# Altium footprint library PcbLib1.PcbLib: 58 footprints (part 3 of 4)
Each footprint in its own frame and in the unit in brackets; x right, y up, seen from the top. Pads: shape width x height; smd on the part's side, far side on the other; paste and mask are expansions set on the pad; w line width, h text height; cw(c..) or ccw(c..) is an arc to the next point about the centre after c.
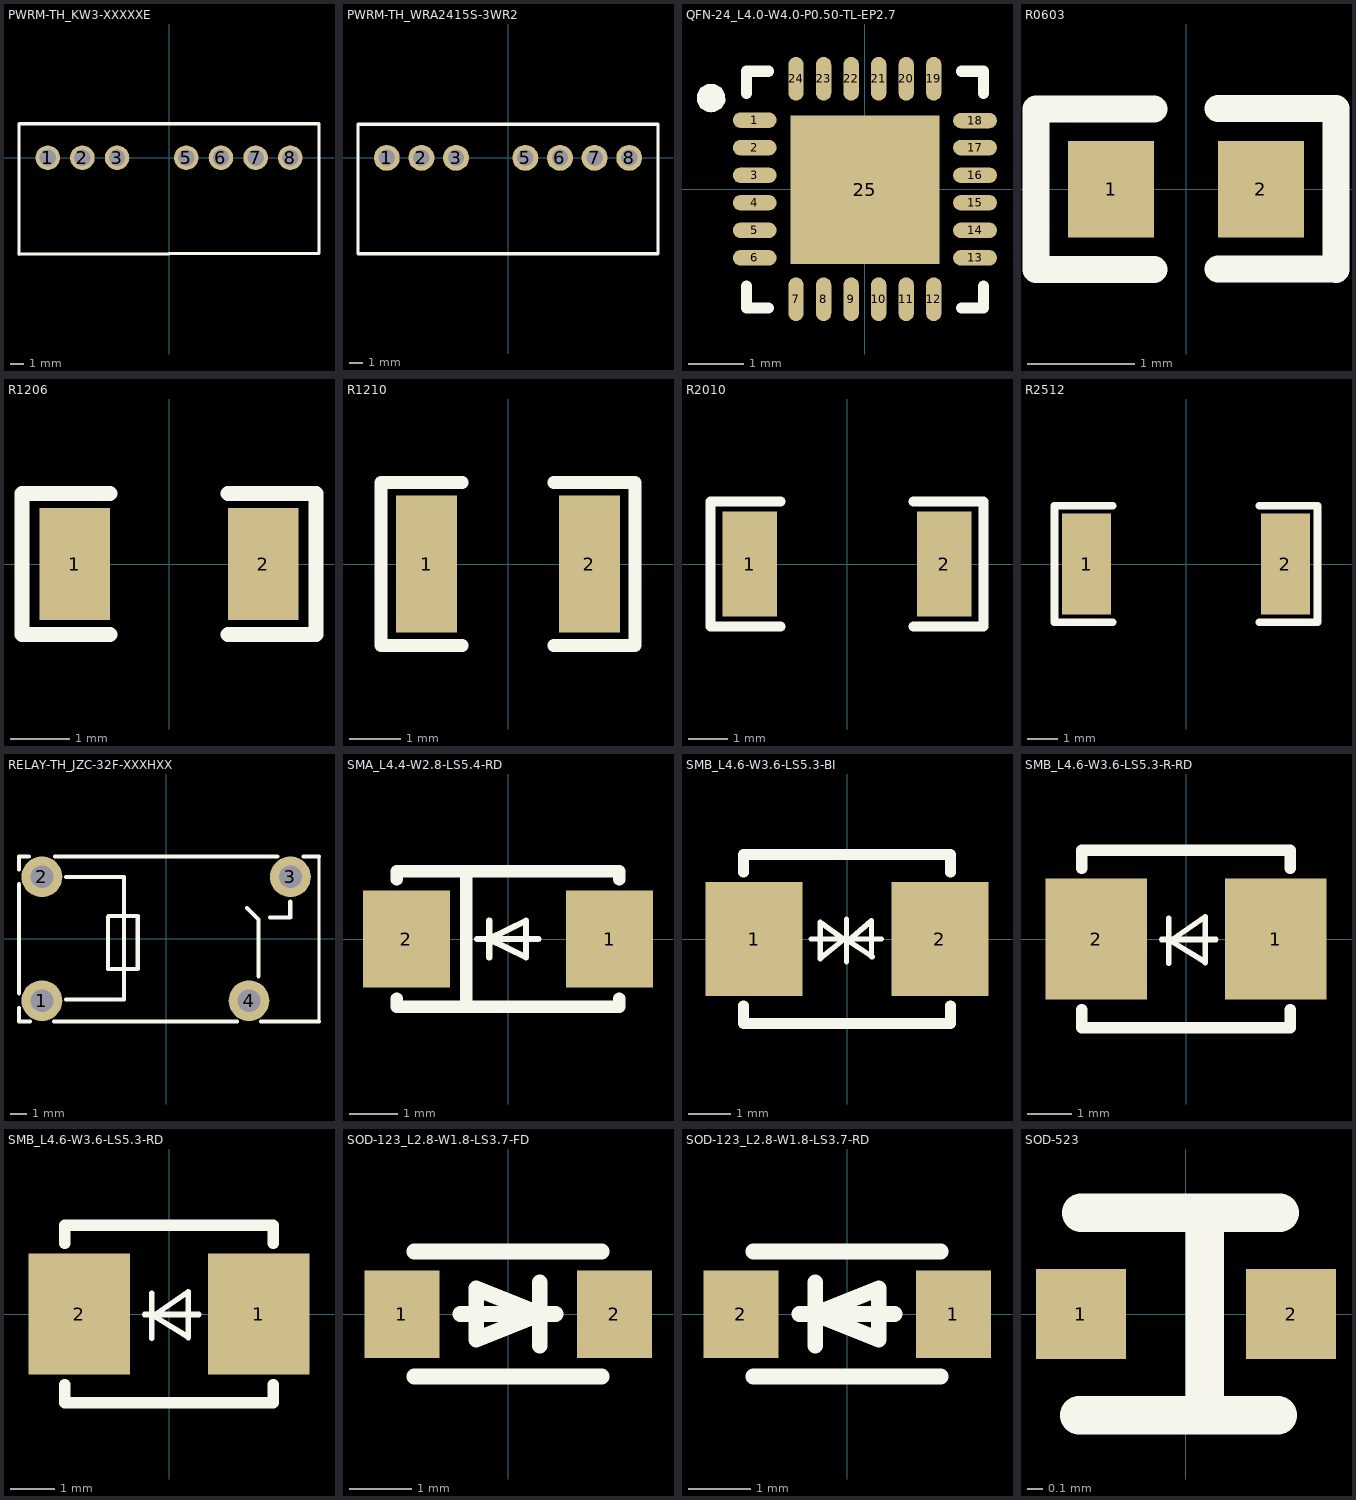
[diagram p2: the footprints below, top view; thin cyan lines are the x and y axes]

## PWRM-TH_KW3-XXXXXE [mm]
pads (7):
  round 1.8 hole 1.2: 1(-8.89,0) 2(-6.35,0) 3(-3.81,0) 5(1.27,0) 6(3.81,0) 7(6.35,0) 8(8.89,0)
Top Overlay:
  lines w0.254: -11,-7.1 11,-7 11,2.5 -11,2.5 -11,-7

## PWRM-TH_WRA2415S-3WR2 [mm]
pads (7):
  round 1.9 hole 1.2: 1(-8.89,0) 2(-6.35,0) 3(-3.81,0) 5(1.27,0) 6(3.81,0) 7(6.35,0) 8(8.89,0)
Top Overlay:
  lines w0.254: -11,-7.036 11,-7.036 11,2.464 -11,2.464 -11,-7.036

## QFN-24_L4.0-W4.0-P0.50-TL-EP2.7 [mm]
pads (25):
  oval 0.796x0.28 smd: 1(-2,1.25) 2(-2,0.75) 3(-2,0.25) 4(-2,-0.25) 5(-2,-0.75) 6(-2,-1.25) 13(2,-1.25) 14(2,-0.75) 15(2,-0.25) 16(2,0.25) 17(2,0.75) 18(2,1.242)
  oval 0.28x0.796 smd: 7(-1.25,-2) 8(-0.75,-2) 9(-0.25,-2) 10(0.25,-2) 11(0.75,-2) 12(1.25,-2) 19(1.25,2) 20(0.75,2) 21(0.25,2) 22(-0.25,2) 23(-0.75,2) 24(-1.25,2)
  rect 2.7x2.7 smd: 25(0,-0.013)
Top Overlay:
  region: -2.792,1.397 -2.724,1.398 -2.607,1.466 -2.539,1.584 -2.54,1.72 -2.608,1.838 -2.726,1.905 -2.861,1.905 -2.979,1.838 -3.047,1.72 -3.048,1.584 -2.98,1.466 -2.863,1.398 -2.795,1.397
  lines w0.2: -2.15,-1.763 -2.15,-2.163 -1.75,-2.163 ; -2.15,1.737 -2.15,2.137 -1.75,2.137 ; 1.75,-2.163 2.15,-2.163 2.15,-1.763 ; 1.75,2.137 2.15,2.137 2.15,1.737

## R0603 [mm]
pads (2):
  rect 0.8x0.9 smd: 1(-0.7,0) 2(0.7,0)
Top Overlay:
  lines w0.254: -1.401,-0.75 -0.3,-0.75 ; -1.401,0.75 -0.3,0.75 ; -1.4,-0.75 -1.4,0.75 ; 0.301,-0.745 1.401,-0.745 ; 0.301,0.755 1.401,0.755 ; 1.401,-0.75 1.401,0.75

## R1206 [mm]
pads (2):
  rect 1.2x1.9 smd: 1(-1.6,0) 2(1.6,0)
Top Overlay:
  lines w0.254: -1,-1.2 -2.5,-1.2 -2.5,1.2 -1,1.2 ; 1,-1.2 2.5,-1.2 2.5,1.2 1,1.2

## R1210 [mm]
pads (2):
  rect 1.2x2.7 smd: 1(-1.6,0) 2(1.6,0)
Top Overlay:
  lines w0.254: -0.9,-1.6 -2.5,-1.6 -2.5,1.6 -0.9,1.6 ; 0.9,-1.6 2.5,-1.6 2.5,1.6 0.9,1.6

## R2010 [mm]
pads (2):
  rect 1.4x2.7 smd: 1(-2.5,0) 2(2.5,0)
Top Overlay:
  lines w0.254: -1.7,-1.6 -3.5,-1.6 -3.5,1.6 -1.7,1.6 ; 1.7,-1.6 3.5,-1.6 3.5,1.6 1.7,1.6

## R2512 [mm]
pads (2):
  rect 1.6x3.3 smd: 1(-3.25,0) 2(3.25,0)
Top Overlay:
  lines w0.254: -2.4,-1.9 -4.3,-1.9 -4.3,1.9 -2.4,1.9 ; 2.4,-1.9 4.3,-1.9 4.3,1.9 2.4,1.9

## RELAY-TH_JZC-32F-XXXHXX [mm]
pads (4):
  round 2.5 hole 1.4: 1(-7.62,-3.8) 2(-7.62,3.8) 3(7.62,3.8) 4(5.08,-3.8)
Top Overlay:
  lines w0.203: 9.37,4.91 9.37,4.92 9.37,5.039 ; 9.373,-5.08 9.373,4.92
  lines w0.254: -9.027,-4.257 -9.027,-5.08 -8.362,-5.08 ; -9.027,-3.342 -9.027,3.342 ; -9.027,4.257 -9.027,5.039 -8.429,5.039 ; -6.878,-5.08 4.338,-5.08 ; -6.811,5.039 6.811,5.039 ; -6.141,-3.73 -2.59,-3.73 -2.59,3.79 ; -6.139,3.79 -2.59,3.79 ; -3.57,1.35 -3.57,-1.85 -1.74,-1.85 -1.74,1.39 -3.53,1.39 ; -2.677,3.79 -2.59,3.79 ; 4.96,1.89 5.67,1.18 5.67,-2.3 ; 5.822,-5.08 9.373,-5.08 ; 6.36,1.31 7.61,1.31 7.61,2.27 ; 8.429,5.039 9.37,5.039

## SMA_L4.4-W2.8-LS5.4-RD [mm]
pads (2):
  rect 1.8x2 smd: 1(2.1,0) 2(-2.1,0)
Top Overlay:
  lines w0.127: -0.643,0 0.627,0 ; -0.389,-0.381 -0.389,0 ; -0.389,0.381 -0.389,0 ; -0.389,0 0.373,-0.381 0.373,0 0.373,0.381 -0.389,0
  lines w0.254: -2.3,-1.231 -2.3,-1.4 2.3,-1.4 2.3,-1.231 ; -2.3,1.231 -2.3,1.4 2.3,1.4 2.3,1.231 ; -0.864,-1.4 -0.864,1.4

## SMB_L4.6-W3.6-LS5.3-BI [mm]
pads (2):
  rect 2.3x2.7 smd: 1(-2.2,0) 2(2.2,0)
Top Overlay:
  lines w0.127: -0.85,0 0.81,0 ; -0.64,-0.47 -0.077,-0.01 -0.63,0.4 -0.63,-0.47 ; -0.011,-0.546 -0.011,0.47 ; 0.58,-0.42 0.58,0.43 0.028,-0.04 0.6,-0.42
  lines w0.254: -2.45,-1.581 -2.45,-2 2.45,-2 2.45,-1.581 ; -2.45,1.581 -2.45,2 2.45,2 2.45,1.581

## SMB_L4.6-W3.6-LS5.3-R-RD [mm]
pads (2):
  rect 2.29x2.72 smd: 1(2.025,0) 2(-2.025,0)
Top Overlay:
  lines w0.127: -0.548,-0.01 0.671,-0.01 ; -0.389,-0.546 -0.389,0.47 ; 0.433,-0.53 0.433,0.486 ; 0.433,-0.52 -0.35,-0.04 0.433,0.5
  lines w0.254: -2.35,-1.591 -2.35,-2 2.35,-2 2.35,-1.591 ; -2.35,1.591 -2.35,2 2.35,2 2.35,1.591

## SMB_L4.6-W3.6-LS5.3-RD [mm]
pads (2):
  rect 2.29x2.72 smd: 1(2.025,0) 2(-2.025,0)
Top Overlay:
  lines w0.127: -0.548,-0.01 0.671,-0.01 ; -0.389,-0.546 -0.389,0.47 ; 0.433,-0.53 0.433,0.486 ; 0.433,-0.52 -0.35,-0.04 0.433,0.5
  lines w0.254: -2.35,-1.591 -2.35,-2 2.35,-2 2.35,-1.591 ; -2.35,1.591 -2.35,2 2.35,2 2.35,1.591

## SOD-123_L2.8-W1.8-LS3.7-FD [mm]
pads (2):
  rect 1.2x1.4 smd: 1(-1.7,0) 2(1.7,0)
Top Overlay:
  lines w0.254: -1.5,-1 1.5,-1 ; -1.5,1 1.5,1 ; -0.762,0 0.762,0 ; 0.508,-0.508 0.508,0.508 ; -0.508,-0.406 0.508,0 -0.508,0.406 -0.508,-0.406

## SOD-123_L2.8-W1.8-LS3.7-RD [mm]
pads (2):
  rect 1.2x1.4 smd: 1(1.7,0) 2(-1.7,0)
Top Overlay:
  lines w0.254: -1.5,-1 1.5,-1 ; -1.5,1 1.5,1 ; -0.762,0 0.762,0 ; -0.508,-0.508 -0.508,0.508 ; -0.508,0 0.508,-0.406 0.508,0.406 -0.508,0

## SOD-523 [mm]
pads (2):
  rect 0.6x0.6 smd: 1(-0.7,0) 2(0.7,0)
Top Overlay:
  lines w0.254: -0.712,-0.675 0.613,-0.675 ; -0.7,0.675 0.625,0.675 ; 0.125,-0.55 0.125,0.6